# EAGLE library part NUVI-LINK (library Logicar Rev 2 Lib)
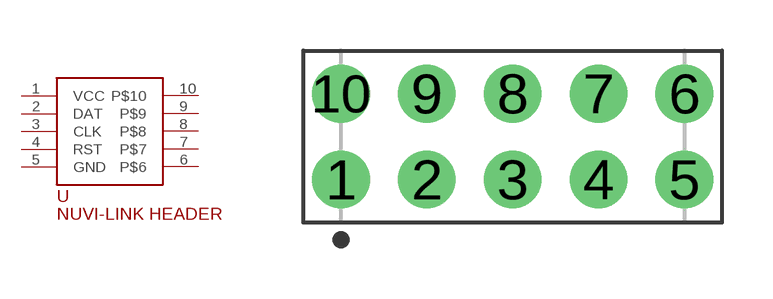
[diagram p2: symbol with the pads of NUVI-LINK; footprint NUVI-LINK]

Designator prefix -

## NUVI-LINK  [NUVI-LINK]
1  VCC
2  DAT
3  CLK
4  RST
5  GND
6  P$6
7  P$7
8  P$8
9  P$9
10  P$10

## Footprint NUVI-LINK (pad centres in mm)
Double-row, 10-pin Pin Header (Male) Straight, 2.54 mm (0.10 in) row pitch, 2.54 mm (0.10 in) col pitch, 5.84 mm mating length, 10.16 X 5.08 X 8.38 mm body Double-row (2X5), 10-pin Pin Header (Male) Straight package with 2.54 mm (0.10 in) row pitch, 2.54 mm (0.10 in) col pitch, 0.64 mm lead width, 3.00 mm tail length and 5.84 mm mating length with overall size 10.16 X 5.08 X 8.38 mm, pin pattern - counter-clockwise from bottom left
drill 1.105 pad 1.705: 1 0,0; 2 2.54,0; 3 5.08,0; 4 7.62,0; 5 10.16,0; 6 10.16,2.54; 7 7.62,2.54; 8 5.08,2.54; 9 2.54,2.54; 10 0,2.54